# Altium schematic symbol library PCIe x4.SchLib: 5 symbols
Pins are listed as number, name and electrical type; pins without a type are passive.

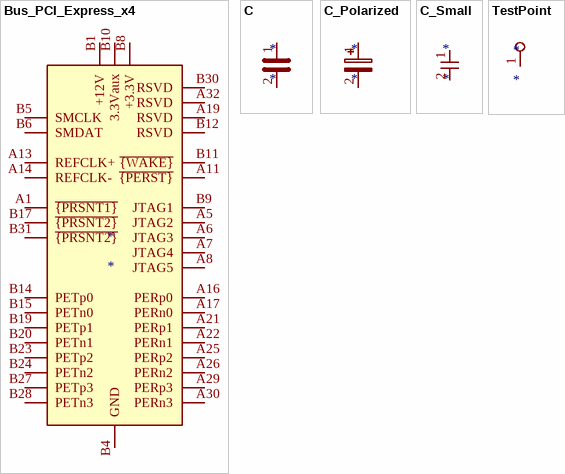
[diagram p0: symbols Bus_PCI_Express_x4 to TestPoint]

## Bus_PCI_Express_x4
designator *
pins: A1 ~{{PRSNT1}}, A2 +12V hidden, A3 +12V hidden, A4 GND hidden, A5 JTAG2, A6 JTAG3, A7 JTAG4, A8 JTAG5, A9 +3.3V hidden, A10 +3.3V hidden, A11 ~{{PERST}}, A12 GND hidden, A13 REFCLK+, A14 REFCLK-, A15 GND hidden, A16 PERp0, A17 PERn0, A18 GND hidden, A19 RSVD, A20 GND hidden, A21 PERp1, A22 PERn1, A23 GND hidden, A24 GND hidden, A25 PERp2, A26 PERn2, A27 GND hidden, A28 GND hidden, A29 PERp3, A30 PERn3, A31 GND hidden, A32 RSVD, B1 +12V, B2 +12V hidden, B3 +12V hidden, B4 GND, B5 SMCLK, B6 SMDAT, B7 GND hidden, B8 +3.3V, B9 JTAG1, B10 3.3Vaux, B11 ~{{WAKE}}, B12 RSVD, B13 GND hidden, B14 PETp0, B15 PETn0, B16 GND hidden, B17 ~{{PRSNT2}}, B18 GND hidden, B19 PETp1, B20 PETn1, B21 GND hidden, B22 GND hidden, B23 PETp2, B24 PETn2, B25 GND hidden, B26 GND hidden, B27 PETp3, B28 PETn3, B29 GND hidden, B30 RSVD, B31 ~{{PRSNT2}}, B32 GND hidden

## C
designator *
pins: 1, 2

## C_Polarized
designator *
pins: 1, 2

## C_Small
designator *
pins: 1, 2

## TestPoint
designator *
pins: 1